# Altium schematic symbol library Connector - USB.SchLib: 7 symbols
Pins are listed as number, name and electrical type; pins without a type are passive.

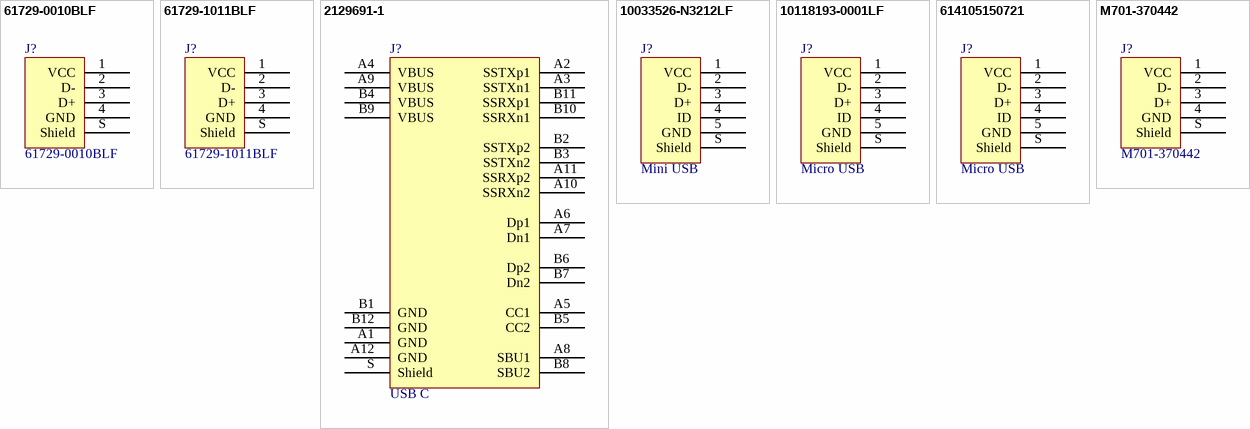
[diagram p0: symbols 61729-0010BLF to M701-370442]

## 61729-0010BLF
designator J?
CONN RCPT USB TYPE B R/A PCB; Manufacturer: Amphenol FCI; Number Of Positions: 4; Part Number: 61729-0010BLF; PartId: 9696; Supplier 1: Digi-Key; Supplier Part Number 1: 609-1039-ND; ComponentLink1Description: Datasheet; ComponentLink1URL: http://portal.fciconnect.com/Comergent//fci/drawing/61729.pdf; ComponentLink2Description: Digi-Key Listing; ComponentLink2URL: http://www.digikey.com/product-detail/en/amphenol-fci/61729-0010BLF/609-1039-ND/1001353; Price: 0.92; Type: USB - B; Series: USB 2.0
footprint FCI USB 61729-0010BLF
pins: 1 VCC, 2 D-, 3 D+, 4 GND, S Shield

## 61729-1011BLF
designator J?
USB RCPT B-TYPE R/A FULL BACK; Manufacturer: Amphenol FCI; Number Of Positions: 4; Part Number: 61729-1011BLF; PartId: 9697; Supplier 1: Digi-Key; Supplier Part Number 1: 609-3657-ND; ComponentLink1Description: Datasheet; ComponentLink1URL: http://portal.fciconnect.com/Comergent//fci/drawing/61729.pdf; ComponentLink2Description: Digi-Key Listing; ComponentLink2URL: http://www.digikey.com/product-detail/en/amphenol-fci/61729-1011BLF/609-3657-ND/1490763; Price: 0.92; Type: USB - B; Series: USB 2.0
footprint FCI USB 61729-1011BLF
pins: 1 VCC, 2 D-, 3 D+, 4 GND, S Shield

## 2129691-1
designator J?, comment USB C
USB 3.1 TYPE C MID MOUNT HYBRID; Part Number: 2129691-1; Manufacturer: TE Connectivity AMP Connectors; Number Of Positions: 24; PartId: 7863; Supplier 1: Digi-Key; Supplier Part Number 1: A122008TR-ND; ComponentLink1Description: Datasheet; ComponentLink1URL: http://media.digikey.com/pdf/Data%20Sheets/Tyco%20Electonics%20AMP%20PDFs/2129691_Dwg.pdf; ComponentLink2Description: Digi-Key Listing; ComponentLink2URL: http://www.digikey.ca/product-detail/en/2129691-1/A122008TR-ND/5401336; Price: 2.2088; Type: USB - C; Series: USB 3.1, Superspeed+
footprint TE USB-C 2129691-1
pins: A1 GND, A2 SSTXp1, A3 SSTXn1, A4 VBUS, A5 CC1, A6 Dp1, A7 Dn1, A8 SBU1, A9 VBUS, A10 SSRXn2, A11 SSRXp2, A12 GND, B1 GND, B2 SSTXp2, B3 SSTXn2, B4 VBUS, B5 CC2, B6 Dp2, B7 Dn2, B8 SBU2, B9 VBUS, B10 SSRXn1, B11 SSRXp1, B12 GND, S Shield

## 10033526-N3212LF
designator J?, comment Mini USB
CONN MINI USB RCPT RA TYPE B SMD; Part Number: 10033526-N3212LF; Manufacturer: FCI; Number Of Positions: 5; PartId: 7865; Supplier 1: Digi-Key; Supplier Part Number 1: 609-4700-2-ND; ComponentLink1Description: Datasheet; ComponentLink1URL: http://portal.fciconnect.com/Comergent//fci/drawing/10033526.pdf; ComponentLink2Description: Digi-Key Listing; ComponentLink2URL: http://www.digikey.ca/product-detail/en/10033526-N3212LF/609-4700-2-ND/4292074; Price: 0.5197; Type: USB - mini B; Series: Mini
footprint FCI USB 10033526-N3212LF
pins: 1 VCC, 2 D-, 3 D+, 4 ID, 5 GND, S Shield

## 10118193-0001LF
designator J?, comment Micro USB
CONN USB MICRO B RECPT SMT R/A; Part Number: 10118193-0001LF; Manufacturer: FCI; Number Of Positions: 5; PartId: 7864; Supplier 1: Digi-Key; Supplier Part Number 1: 609-4616-2-ND; ComponentLink1Description: Datasheet; ComponentLink1URL: http://portal.fciconnect.com/Comergent//fci/drawing/10118193.pdf; ComponentLink2Description: Digi-Key Listing; ComponentLink2URL: http://www.digikey.ca/product-detail/en/10118193-0001LF/609-4616-2-ND/2785388; Price: 0.2823; Type: USB - micro B; Series: USB 2.0
footprint FCI USB 10118193-0001LF
pins: 1 VCC, 2 D-, 3 D+, 4 ID, 5 GND, S Shield

## 614105150721
designator J?, comment Micro USB
CONN USB MICRO B RECPT SMT R/A; Part Number: 614105150721; Manufacturer: Wurth Electronics Inc.; Number Of Positions: 5; Supplier 1: Digi-Key; Supplier Part Number 1: 732-5958-2-ND; ComponentLink1Description: Datasheet; ComponentLink1URL: https://katalog.we-online.de/em/datasheet/614105150721.pdf; ComponentLink2Description: Digi-Key Listing; ComponentLink2URL: https://www.digikey.com/product-detail/en/wurth-electronics-inc/614105150721/732-5958-2-ND/5047749; Price: 1.344; Type: USB - micro B; Series: USB 2.0
footprint WURTH 614105150721
pins: 1 VCC, 2 D-, 3 D+, 4 ID, 5 GND, S Shield

## M701-370442
designator J?
CONN USB B SINGLE SMT HORIZ CONNECTOR; Manufacturer: Harwin Inc.; Number Of Positions: 4; Part Number: M701-370442; PartId: 9698; Supplier 1: Digi-Key; Supplier Part Number 1: 952-1768-ND; ComponentLink1Description: Datasheet; ComponentLink1URL: http://cdn.harwin.com/pdfs/M701-370442.pdf; ComponentLink2Description: Digi-Key Listing; ComponentLink2URL: http://www.digikey.com/product-detail/en/harwin-inc/M701-370442/952-1768-ND/3727737; Price: 1.36; Type: USB - B; Series: USB 2.0
footprint Harwin USB M701-370442
pins: 1 VCC, 2 D-, 3 D+, 4 GND, S Shield